# Altium schematic symbol library SlideSwitch.SchLib: 1 symbol
Pins are listed as number, name and electrical type; pins without a type are passive.

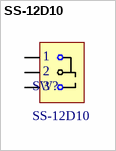
[diagram p0: symbol SS-12D10]

## SS-12D10
designator SW?
SS-12D10 Công Tắc Trượt 3 Chân Xuyên Lỗ ON-OFF 1P2T 0.5A
footprint Slide Switch (SWITCH SS-12D10)
pins: 1, 2, 3